# Altium footprint library Switch.PcbLib: 7 footprints
Each footprint in its own frame and in the unit in brackets; x right, y up, seen from the top. Pads: shape width x height; smd on the part's side, far side on the other; paste and mask are expansions set on the pad; w line width, h text height; cw(c..) or ccw(c..) is an arc to the next point about the centre after c.
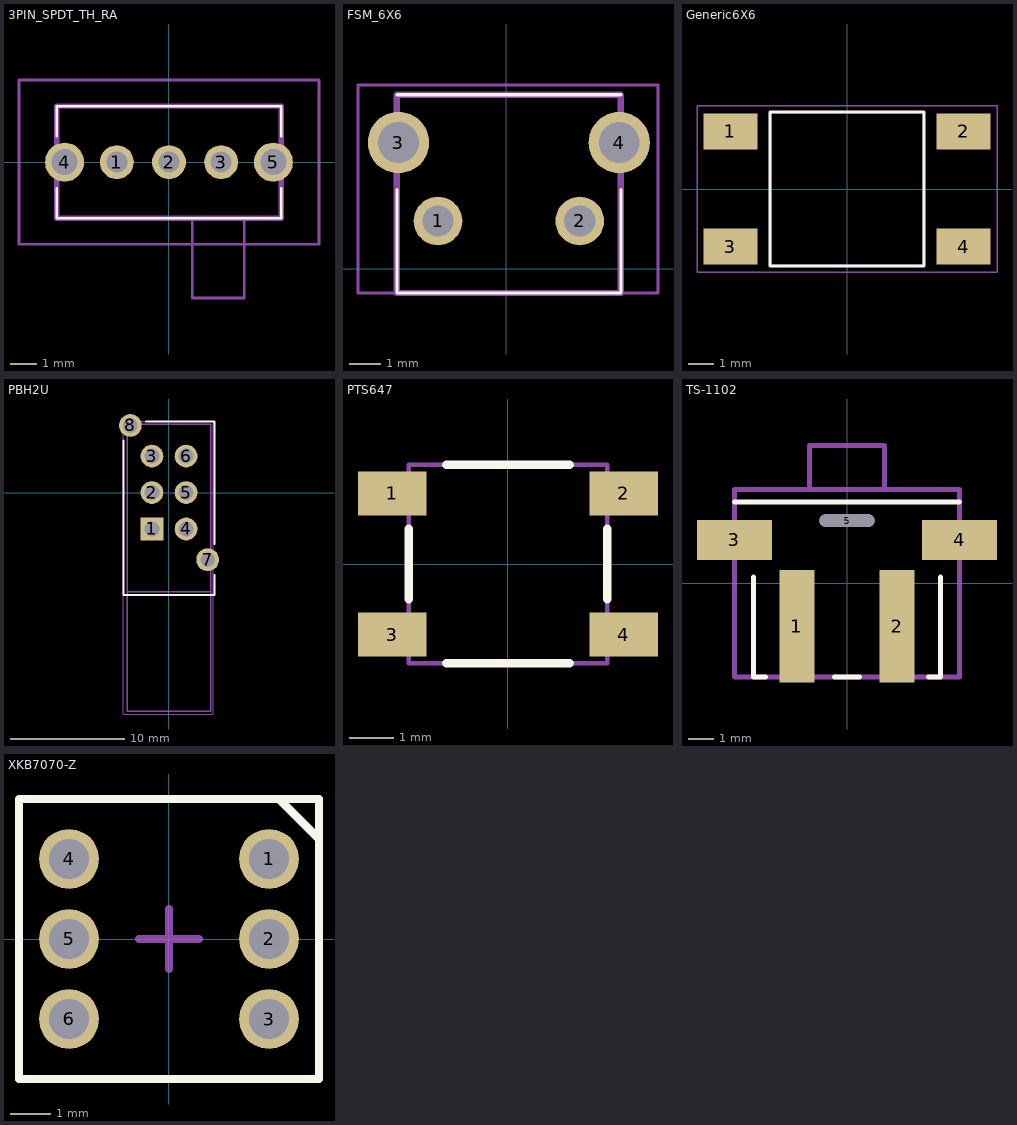
[diagram p0: the footprints below, top view; thin cyan lines are the x and y axes]

## 3PIN_SPDT_TH_RA [mm]
pads (5):
  round 1.3 hole 0.8: 1(-2,0) 2(0,0) 3(2,0)
  round 1.5 hole 1: 4(-4,0) 5(4,0)
Top Overlay:
  lines w0.1: -4.3,-1 -4.3,-2.15 4.3,-2.15 4.3,-1 ; -4.3,1 -4.3,2.15 4.3,2.15 4.3,1
Top Designator:
  text ".Designator" at -7.618,-1.536 h1.52
Top Component Outline:
  lines w0.1: -4.318,2.141 -4.318,-2.159 4.264,-2.159 ; -4.318,2.159 4.282,2.159 4.282,-2.141 ; 0.889,-2.207 0.889,-5.207 2.889,-5.207 2.889,-2.207
Mechanical 13:
  lines w0.2: -4.3,-2.15 -4.3,2.15 4.3,2.15 4.3,-2.15 -4.3,-2.15
Mechanical 15:
  lines w0.1: -5.75,-3.15 -5.75,3.15 5.75,3.15 5.75,-3.15 -5.75,-3.15
3D body "2 Position Slide Switch, Right Angle.STEP": height 1.27, standoff -5, extent -4.696,-5.174 4.477,2.126

## FSM_6X6 [mm]
pads (4):
  round 1.54 hole 0.99: 1(-2.159,1.524) 2(2.341,1.524)
  round 1.95 hole 1.3: 3(-3.414,4.014) 4(3.596,4.014)
Top Overlay:
  lines w0.1: -3.464,2.524 -3.464,-0.762 3.646,-0.762 3.646,2.524 ; -3.464,5.524 -3.464,5.534 3.646,5.534 3.646,5.524
Top Designator:
  text ".Designator" at -7.554,-0.166 h1.52
Mechanical 13:
  lines w0.2: -3.464,-0.762 3.646,-0.762 3.646,5.534 -3.464,5.534 -3.464,-0.762
Mechanical 15:
  lines w0.1: -4.699,-0.762 4.826,-0.762 4.826,5.842 -4.699,5.842 -4.699,-0.762
3D body "1-1825027-7.stp": height 7.1, standoff -3.42, extent -3.903,-5.208 4.505,5.651

## Generic6X6 [mm]
pads (4):
  rect 2.1x1.4 smd: 1(-4.55,2.25) 2(4.55,2.25) 3(-4.55,-2.25) 4(4.55,-2.25)
Top Overlay:
  lines w0.127: -3,-3 -3,3 3,3 3,-3 -3,-3
Top Designator:
  text ".Designator" at -7.618,-0.508 h1.52
Mechanical 13:
  lines w0.1: -3,-3 -3,3 3,3 3,-3 -3,-3
Mechanical 15:
  lines w0.05: -5.85,-3.25 -5.85,3.25 5.85,3.25 5.85,-3.25 -5.85,-3.25
3D body "step_temp.STEP": height 9.5, standoff 0, extent -5,-3 5,3

## PBH2U [mm]
pads (8):
  rect 2x2 hole 1.3: 1(-1.5,-3.2)
  round 2 hole 1.3: 2(-1.5,0) 3(-1.5,3.2) 4(1.5,-3.2) 5(1.5,0) 6(1.5,3.2) 7(3.4,-5.9) 8(-3.4,5.9)
Top Overlay:
  lines w0.2: -4,4.578 -4,3 -4,-9 1.75,-9 4,-9 4,-7.25 ; -2,6.25 -1.5,6.25 4,6.25 4,-3.25 4,-4.5
Top Designator:
  text ".Designator" at -7.618,-6.745 h1.52
Mechanical 13:
  lines w0.127: -3.65,-8.7 -3.65,6 3.65,6 3.65,-8.7 ; -3.65,-8.7 -3.65,-19.2 3.65,-19.2 3.65,-8.7 ; -3.65,-8.7 3.65,-8.7
Mechanical 15:
  lines w0.05: -4,-19.45 -4,6.25 3.9,6.25 3.9,-19.45 -4,-19.45
3D body "PBH2UEESNPNAGX.step": height 9.15, standoff -4, extent -3.65,-19.2 3.65,6

## PTS647 [mm] "Tactile Switch SPST-NO Top Actuated Surface Mount"
pads (4):
  rect 1.55x1 smd: 1(-2.625,1.6) 2(2.625,1.6) 3(-2.625,-1.6) 4(2.625,-1.6)
Top Overlay:
  lines w0.2: -2.25,-0.8 -2.25,0.8 ; -1.4,-2.25 1.4,-2.25 ; -1.4,2.25 1.4,2.25 ; 2.25,-0.8 2.25,0.8
Top Designator:
  text ".Designator" at -7.618,-0.508 h1.52
Mechanical 13:
  lines w0.1: -2.25,-2.25 2.25,-2.25 2.25,2.25 -2.25,2.25 -2.25,-2.25
3D body "PTS_647_SN50_SMTR2_LFS.step": height 5, standoff 0, extent -3.25,-2.25 3.25,2.25

## TS-1102 [mm]
pads (5):
  rect 1.4x4.5 smd: 1(-2,-1.725) 2(2,-1.725)
  rect 3x1.6 smd: 3(-4.5,1.725) 4(4.5,1.725)
  oval 2.2x0.5 hole 0.5 slot 2.2 at 0 deg unplated: 5(0,2.5)
Top Overlay:
  lines w0.2: -4.5,3.25 4.5,3.25 ; -3.75,0.25 -3.75,-3.75 -3.25,-3.75 ; -0.5,-3.75 0.5,-3.75 ; 3.25,-3.75 3.75,-3.75 3.75,0.25
Top Designator:
  text ".Designator" at -7.618,0.254 h1.52
Mechanical 13:
  lines w0.2: -1.5,3.75 -1.5,5.5 1.5,5.5 1.5,3.75 ; -4.5,-3.75 -4.5,3.75 4.5,3.75 4.5,-3.75 -4.5,-3.75
Mechanical 15:
  lines w0.2: -4.5,-3.75 -4.5,3.75 -1.5,3.75 -1.5,5.5 1.5,5.5 1.5,3.75 4.5,3.75 4.5,-3.75 -4.5,-3.75
3D body "TS-1102US-B-F.stp": height 7.5, standoff -1.3, extent -4.5,-3.7 4.5,5.5

## XKB7070-Z [mm] "-10℃~+70℃ 1.8N 100mA 30V 5000 cycles Blue DPDT Latching PC Pin Rectangular Plunger Through Hole Without Plugin Pushbutton Switches ROHS"
pads (6):
  round 1.5 hole 1: 1(2.5,2) 2(2.5,0) 3(2.5,-2) 4(-2.5,2) 5(-2.5,0) 6(-2.5,-2)
Top Overlay:
  lines w0.2: 2.75,3.5 3.75,2.5 ; -3.75,-3.5 -3.75,3.5 3.75,3.5 3.75,-3.5 -3.75,-3.5
Top Designator:
  text ".Designator" at -1.059,3.996 h0.76
Mechanical 13:
  lines w0.2: 2.75,3.5 3.75,2.5 ; -3.75,-3.5 3.75,-3.5 3.75,3.5 -3.75,3.5 -3.75,-3.5
Mechanical 15:
  lines w0.2: -0.75,0 0.75,0 ; 0,-0.75 0,0.75 ; -3.75,-3.5 3.75,-3.5 3.75,3.5 -3.75,3.5 -3.75,-3.5
3D body "MHPS2273.stp": height 12.5, standoff -3.5, extent -3.5,-3.5 3.5,3.5